# EAGLE library part 3310LCD (library mastrogippo)
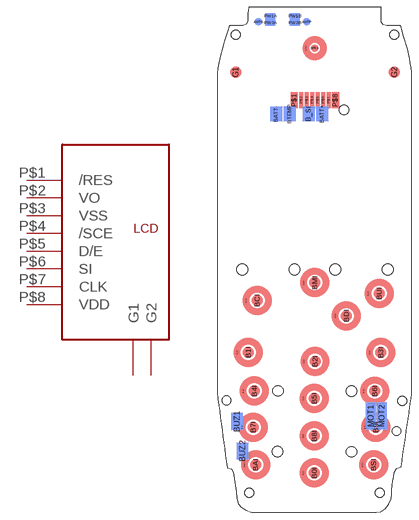
[diagram p4: symbol with the pads of 3310LCD; footprint 3310LCD]

Designator prefix -

## 3310LCD  [3310LCD]
P$1  /RES
P$2  VO
P$3  VSS
P$4  /SCE
P$5  D/E
P$6  SI
P$7  CLK
P$8  VDD

## Footprint 3310LCD (pad centres in mm)
smd 1.651 x 1.651 bottom: ANTG 8.839,104.826; ANTP 19.126,104.826
smd 2.5 x 2.5: B0I 20.79,8.442; B1I 6.69,34.242; B2I 20.94,32.292; B3I 34.99,34.192; B4I 7.99,25.942; B5I 20.79,24.392; B6I 33.69,25.942; B7I 7.74,18.242; B8I 20.79,16.342; B9I 33.94,18.242; BAI 8.24,10.192; BCI 8.59,45.292; BDI 27.64,42.042; BMI 20.89,49.092; BSI 33.44,10.192; BUI 34.64,46.792; G1 3.99,94.092; G2 37.89,94.092
smd 0.406 x 0.813: B0O 18.49,8.392; B1O 4.39,34.192; B2O 18.64,32.242; B3O 32.69,34.142; B4O 5.69,25.892; B5O 18.49,24.342; B6O 31.39,25.892; B7O 5.44,18.192; B8O 18.49,16.292; B9O 31.64,18.192; BAO 5.94,10.142; BCO 6.29,45.242; BDO 25.34,41.992; BMO 18.59,49.042; BSO 31.14,10.142; BUO 32.34,46.742; SPK2 19.066,99.191
smd 2.54 x 3.175 bottom: B_SI 19.583,85.166; BATT+ 22.454,85.166; BATT- 12.649,85.166; BTEMP 15.519,85.166
smd 2.489 x 3.556 bottom: BUZ1 4.267,19.456; BUZ2 5.436,13.132
smd 2.134 x 5.715 bottom: MOT1 32.842,20.625; MOT2 35.179,20.625
smd 1.5 x 3.429: P$1 16.524,88.092; P$8 25.302,88.092
smd 0.889 x 3.429: P$2 17.992,88.092; P$3 19.16,88.092; P$4 20.329,88.092; P$5 21.497,88.092; P$6 22.666,88.092; P$7 23.834,88.092
smd 2.15 x 1.25 bottom: PW1A 11.409,106.061; PW1B 16.609,106.061; PW2A 11.409,104.615; PW2B 16.609,104.615
smd 1.651 x 1.651: SPK1 20.828,99.238
hole 1.905 at 37.885,102.041
hole 2 at 27.09,85.992
hole 1.905 at 3.985,102.041
hole 1.905 at 34.735,4.191
hole 1.905 at 6.885,4.241
hole 1.905 at 2.035,23.941
hole 1.905 at 39.535,23.891
hole 2.3 at 5.39,51.892
hole 2.3 at 16.54,51.892
hole 2.3 at 25.24,51.892
hole 2.3 at 36.44,51.892
hole 1.8 at 38.34,17.392
hole 2.2 at 13.04,25.992
hole 2.2 at 28.74,25.942
hole 2.2 at 28.69,12.942
hole 2.2 at 12.94,12.992